# EAGLE library part RS-485 (library PP_DigitalIC)
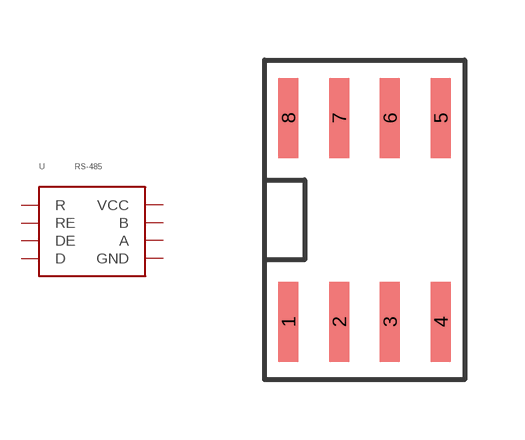
[diagram p17: symbol with the pads of SOIC-8; footprint SOIC-8]

Designator prefix U

## RS-485SOIC-8  [SOIC-8]
1  R
2  RE
3  DE
4  D
5  GND
6  A
7  B
8  VCC

## Footprint SOIC-8 (pad centres in mm)
smd 0.5 x 2: 1 -1.905,-2.55; 2 -0.635,-2.55; 3 0.635,-2.55; 4 1.905,-2.55; 5 1.905,2.55; 6 0.635,2.55; 7 -0.635,2.55; 8 -1.905,2.55